# Altium schematic symbol library SCH - POWER - SWITCHMODE - TI TPS43336-Q1_DAP_38.SchLib: 1 symbol
Pins are listed as number, name and electrical type; pins without a type are passive.

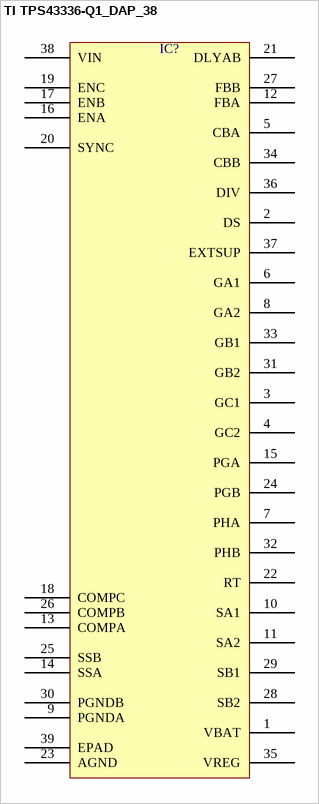
[diagram p0: symbol TI TPS43336-Q1_DAP_38]

## TI TPS43336-Q1_DAP_38
designator IC?  (value not drawn)
pins: 1 VBAT, 2 DS, 3 GC1, 4 GC2, 5 CBA, 6 GA1, 7 PHA, 8 GA2, 9 PGNDA, 10 SA1, 11 SA2, 12 FBA, 13 COMPA, 14 SSA, 15 PGA, 16 ENA, 17 ENB, 18 COMPC, 19 ENC, 20 SYNC, 21 DLYAB, 22 RT, 23 AGND, 24 PGB, 25 SSB, 26 COMPB, 27 FBB, 28 SB2, 29 SB1, 30 PGNDB, 31 GB2, 32 PHB, 33 GB1, 34 CBB, 35 VREG, 36 DIV, 37 EXTSUP, 38 VIN, 39 EPAD